# EAGLE library part MAX144 (library ingolia)
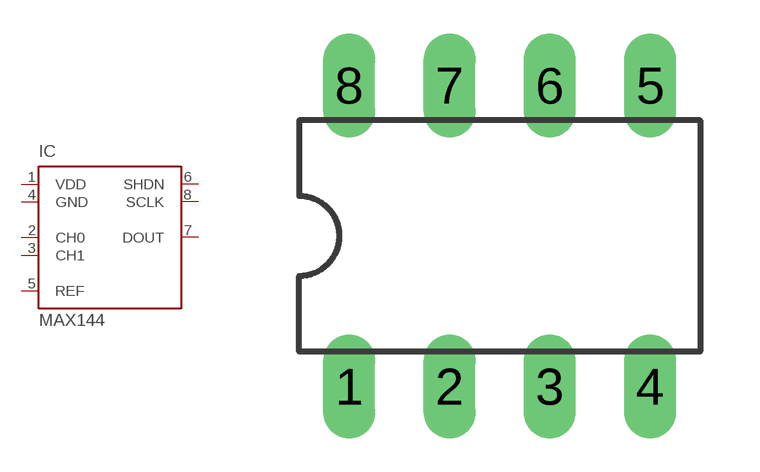
[diagram p7: symbol with the pads of DIL08; footprint DIL08]

Designator prefix IC

## MAX144  [DIL08]
1  VDD  pwr
2  CH0  in
3  CH1  in
4  GND  pwr
5  REF  in
6  SHDN  in
7  DOUT  in
8  SCLK  in

## Footprint DIL08 (pad centres in mm)
drill 0.813 long: 1 -3.81,-3.81; 2 -1.27,-3.81; 3 1.27,-3.81; 4 3.81,-3.81; 5 3.81,3.81; 6 1.27,3.81; 7 -1.27,3.81; 8 -3.81,3.81